# EAGLE library part MAX30001CWV+T (library LinnesLab-Sensors)
None Check prices <https://pricing.snapeda.com/parts/MAX30001CWV%2BT/Maxim%20Integrated/view-part?ref=eda>
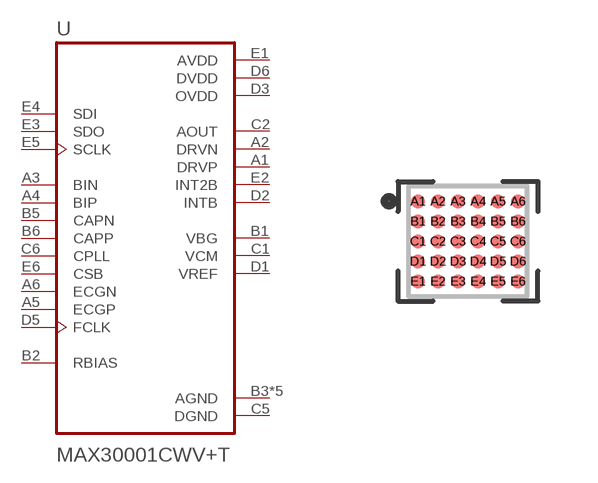
[diagram p27: symbol with the pads of BGA30N50P5X6_274X292X69N; footprint BGA30N50P5X6_274X292X69N]

Designator prefix U

## MAX30001CWV+T (AVAILABILITY: In Stock; DESCRIPTION: Biopotential AFE 30-WLP (2.74x2.93); MF: Maxim Integrated; MP: MAX30001CWV+T; PACKAGE: WLP-30 Maxim; PRICE: None; PURCHASE-URL: https://pricing.snapeda.com/search/part/MAX30001CWV+T/?ref=eda)  [BGA30N50P5X6_274X292X69N]
A1  DRVP  out
A2  DRVN  out
A3  BIN  in
A4  BIP  in
A5  ECGP  in
A6  ECGN  in
B1  VBG  out
B2  RBIAS  pas
B3  AGND  pwr
B4  AGND  pwr
B5  CAPN  in
B6  CAPP  in
C1  VCM  out
C2  AOUT  out
C3  AGND  pwr
C4  AGND  pwr
C5  DGND  pwr
C6  CPLL  in
D1  VREF  out
D2  INTB  out
D3  OVDD  pwr
D4  AGND  pwr
D5  FCLK  in
D6  DVDD  pwr
E1  AVDD  pwr
E2  INT2B  out
E3  SDO  out
E4  SDI  in
E5  SCLK  in
E6  CSB  in

## Footprint BGA30N50P5X6_274X292X69N (pad centres in mm)
smd 0.35 x 0.35: A1 -1.25,1; A2 -0.75,1; A3 -0.25,1; A4 0.25,1; A5 0.75,1; A6 1.25,1; B1 -1.25,0.5; B2 -0.75,0.5; B3 -0.25,0.5; B4 0.25,0.5; B5 0.75,0.5; B6 1.25,0.5; C1 -1.25,0; C2 -0.75,0; C3 -0.25,0; C4 0.25,0; C5 0.75,0; C6 1.25,0; D1 -1.25,-0.5; D2 -0.75,-0.5; D3 -0.25,-0.5; D4 0.25,-0.5; D5 0.75,-0.5; D6 1.25,-0.5; E1 -1.25,-1; E2 -0.75,-1; E3 -0.25,-1; E4 0.25,-1; E5 0.75,-1; E6 1.25,-1